# EAGLE library part XPORT-485 (library mita-akiba)
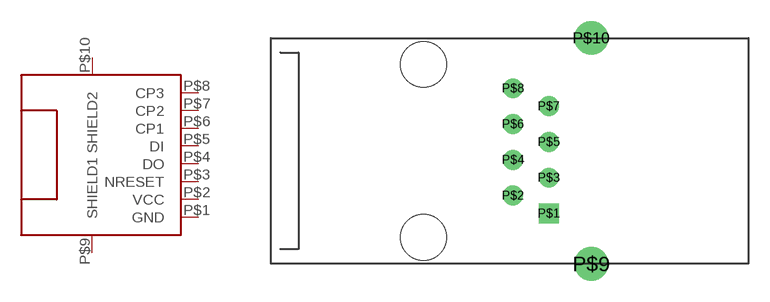
[diagram p42: symbol with the pads of XPORT; footprint XPORT]

Designator prefix -

## XPORT-485  [XPORT]
P$1  GND
P$2  VCC
P$3  NRESET
P$4  DO
P$5  DI
P$6  CP1
P$7  CP2
P$8  CP3
P$9  SHIELD1
P$10  SHIELD2

## Footprint XPORT (pad centres in mm)
XPort Ethernet-RS232C adapter
drill 0.9 square: P$1 0,0
drill 0.9: P$2 -2.54,1.27; P$3 0,2.54; P$4 -2.54,3.81; P$5 0,5.08; P$6 -2.54,6.35; P$7 0,7.62; P$8 -2.54,8.89
drill 1.6: P$9 3.01,-3.58; P$10 3.01,12.47
hole 3.25 at -8.89,-1.705
hole 3.25 at -8.89,10.595